# Altium schematic symbol library PWM_Controller_Half_Bridge_ONLY_TL494.SchLib: 1 symbol
Pins are listed as number, name and electrical type; pins without a type are passive.

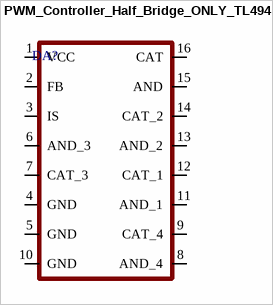
[diagram p0: symbol PWM_Controller_Half_Bridge_ONLY_TL494]

## PWM_Controller_Half_Bridge_ONLY_TL494
designator DA?
footprint PWM_Controller_Half_Bridge_ONLY_TL494
pins: 1 VCC, 2 FB, 3 IS, 4 GND, 5 GND, 6 AND_3, 7 CAT_3, 8 AND_4, 9 CAT_4, 10 GND, 11 AND_1, 12 CAT_1, 13 AND_2, 14 CAT_2, 15 AND, 16 CAT